# EAGLE library part INA21* (library bschulz)
INA21x - Analog Output Current Sense Amplifier Characteristics: Vs: 2.7V ~ 26V Iq: 100uA Common Mode Range: 0V ~ 26V Gain: 200, 500, 1000, 50, 100, 75 V/V (INA210, 211, 212, 213, 214, 215) Operating Temperature: -40°C to 125°C Digikey: INA210 <https://www.digikey.com/product-detail/en/texas-instruments/INA210BIDCKR/296-40124-1-ND/5178001> INA211 <https://www.digikey.com/product-detail/en/texas-instruments/INA211BIDCKR/296-40126-1-ND/5178003> INA212 <https://www.digikey.com/product-detail/en/texas-instruments/INA212BIDCKR/296-40128-1-ND/5178005> INA213 <https://www.digikey.com/product-detail/en/texas-instruments/INA213BIDCKR/296-40129-1-ND/5178006> INA214 <https://www.digikey.com/product-detail/en/texas-instruments/INA214BIDCKR/296-40131-1-ND/5178008> INA215 <https://www.digikey.com/product-detail/en/texas-instruments/INA215AIDCKR/296-46095-1-ND/7033271>
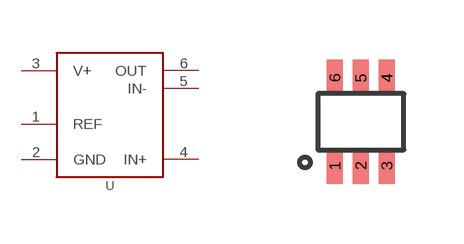
[diagram p33: symbol with the pads of DCK_R-PDSO-G6; footprint DCK_R-PDSO-G6]

Designator prefix U

## INA21DCK (DISP: INA21x; MF: TI), INA210DCK (DIGIKEY: 296-40124-1-ND; DISP: INA210; MF: TI; MPN: INA210BIDCKR), INA211DCK (DIGIKEY: 296-40126-1-ND; DISP: INA211; MF: TI; MPN: INA211BIDCKR), INA212DCK (DIGIKEY: 296-40128-1-ND; DISP: INA212; MF: TI; MPN: INA212BIDCKR), INA213DCK (DIGIKEY: 296-40129-1-ND; DISP: INA213; MF: TI; MPN: INA213BIDCKR), INA214DCK (DIGIKEY: 296-40131-1-ND; DISP: INA214; MF: TI; MPN: INA214BIDCKR), INA215DCK (DIGIKEY: 296-46095-1-ND; DISP: INA215; MF: TI; MPN: INA215AIDCKR)  [DCK_R-PDSO-G6]
1  REF
2  GND
3  V+
4  IN+
5  IN-
6  OUT

## Footprint DCK_R-PDSO-G6 (pad centres in mm)
smd 0.4 x 0.9: 1 -0.65,-1.1; 2 0,-1.1; 3 0.65,-1.1; 4 0.65,1.1; 5 0,1.1; 6 -0.65,1.1